# Altium footprint library BMS Slave Device R1.5.PcbLib: 6 footprints
Each footprint in its own frame and in the unit in brackets; x right, y up, seen from the top. Pads: shape width x height; smd on the part's side, far side on the other; paste and mask are expansions set on the pad; w line width, h text height; cw(c..) or ccw(c..) is an arc to the next point about the centre after c.
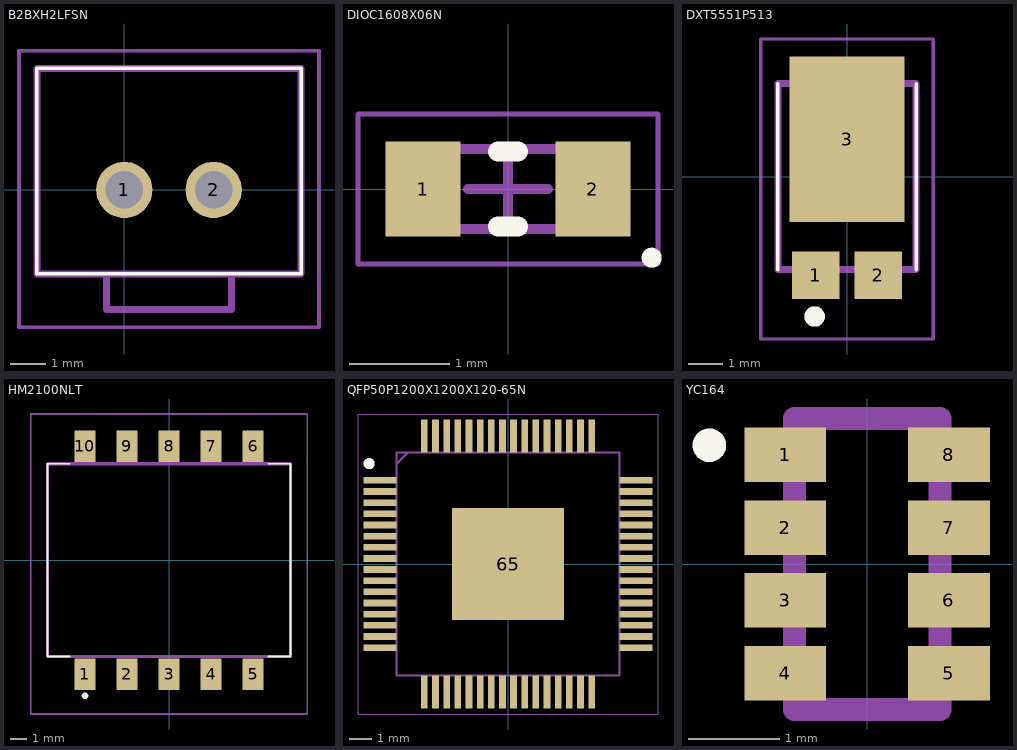
[diagram p0: the footprints below, top view; thin cyan lines are the x and y axes]

## B2BXH2LFSN [mm]
pads (2):
  round 1.575 hole 1.05: 1(0,0) 2(2.5,0)
Top Overlay:
  lines w0.1: -2.45,-2.35 4.95,-2.35 4.95,3.4 -2.45,3.4 -2.45,-2.35
Mechanical 13:
  lines w0.2: -2.45,-2.35 4.95,-2.35 4.95,3.4 -2.45,3.4 -2.45,-2.35 ; -0.5,-3.35 3,-3.35 3,-2.35 -0.5,-2.35 -0.5,-3.35
Mechanical 15:
  lines w0.1: -2.95,-3.85 5.45,-3.85 5.45,3.9 -2.95,3.9 -2.95,-3.85

## DIOC1608X06N [mm] "Chip Diode, 2-Leads, Body 1.60x0.80mm, IPC Medium Density"
height 0.6
pads (2):
  rect 0.75x0.95 smd: 1(-0.85,0) 2(0.85,0)
Top Overlay:
  circle w0.1: c1.437,-0.687 r0.05
  lines w0.2: -0.1,-0.375 0.1,-0.375 ; -0.1,0.375 0.1,0.375
Mechanical 13:
  lines w0.1: -0.8,-0.4 0.8,-0.4 0.8,0.4 -0.8,0.4 -0.8,-0.4
Mechanical 15:
  lines w0.05: -1.5,-0.75 1.5,-0.75 1.5,0.75 -1.5,0.75 -1.5,-0.75
  lines w0.1: -0.4,0 0.4,0 ; 0,-0.4 0,0.4
3D body: height 0.6, standoff 0, extent 0.6,-0.4 0.8,0.4
3D body: height 0.6, standoff 0, extent -0.8,-0.4 -0.6,0.4
3D body: height 0.6, standoff 0, extent -0.6,-0.4 0.6,0.4

## DXT5551P513 [mm]
pads (3):
  rect 1.39x1.4 smd: 1(-0.92,-2.89) 2(0.92,-2.89)
  rect 3.36x4.86 smd: 3(0,1.092)
Top Overlay:
  lines w0.1: -2.025,-2.725 -2.025,2.725 ; 2.025,-2.725 2.025,2.725
  lines w0.3: -1.1,-4.1 ccw(c-0.95,-4.1) -0.8,-4.1 ccw(c-0.95,-4.1) -1.1,-4.1
Mechanical 13:
  lines w0.2: -2.025,-2.725 -2.025,2.725 2.025,2.725 2.025,-2.725 -2.025,-2.725
Mechanical 15:
  lines w0.1: -2.525,-4.76 -2.525,4.032 2.525,4.032 2.525,-4.76 -2.525,-4.76

## HM2100NLT [mm]
pads (10):
  rect 1.27x1.89 smd: 1(-5.08,-6.895) 2(-2.54,-6.895) 3(0,-6.895) 4(2.54,-6.895) 5(5.08,-6.895) 6(5.08,6.895) 7(2.54,6.895) 8(0,6.895) 9(-2.54,6.895) 10(-5.08,6.895)
Top Overlay:
  lines w0.1: -6,-5.825 -7.35,-5.825 -7.35,5.825 -6,5.825 ; 6,-5.825 7.35,-5.825 7.35,5.825 6,5.825
  lines w0.2: -5.18,-8.2 cw(c-5.08,-8.2) -4.98,-8.2 cw(c-5.08,-8.2) -5.18,-8.2
Mechanical 13:
  lines w0.2: -7.35,-5.825 7.35,-5.825 7.35,5.825 -7.35,5.825 -7.35,-5.825
Mechanical 15:
  lines w0.1: -8.35,-9.3 8.35,-9.3 8.35,8.84 -8.35,8.84 -8.35,-9.3

## QFP50P1200X1200X120-65N [mm]
pads (65):
  rect 1.475x0.3 smd: 1(-5.738,3.75) 2(-5.738,3.25) 3(-5.738,2.75) 4(-5.738,2.25) 5(-5.738,1.75) 6(-5.738,1.25) 7(-5.738,0.75) 8(-5.738,0.25) 9(-5.738,-0.25) 10(-5.738,-0.75) 11(-5.738,-1.25) 12(-5.738,-1.75) 13(-5.738,-2.25) 14(-5.738,-2.75) 15(-5.738,-3.25) 16(-5.738,-3.75) 33(5.738,-3.75) 34(5.738,-3.25) 35(5.738,-2.75) 36(5.738,-2.25) 37(5.738,-1.75) 38(5.738,-1.25) 39(5.738,-0.75) 40(5.738,-0.25) 41(5.738,0.25) 42(5.738,0.75) 43(5.738,1.25) 44(5.738,1.75) 45(5.738,2.25) 46(5.738,2.75) 47(5.738,3.25) 48(5.738,3.75)
  rect 0.3x1.475 smd: 17(-3.75,-5.738) 18(-3.25,-5.738) 19(-2.75,-5.738) 20(-2.25,-5.738) 21(-1.75,-5.738) 22(-1.25,-5.738) 23(-0.75,-5.738) 24(-0.25,-5.738) 25(0.25,-5.738) 26(0.75,-5.738) 27(1.25,-5.738) 28(1.75,-5.738) 29(2.25,-5.738) 30(2.75,-5.738) 31(3.25,-5.738) 32(3.75,-5.738) 49(3.75,5.738) 50(3.25,5.738) 51(2.75,5.738) 52(2.25,5.738) 53(1.75,5.738) 54(1.25,5.738) 55(0.75,5.738) 56(0.25,5.738) 57(-0.25,5.738) 58(-0.75,5.738) 59(-1.25,5.738) 60(-1.75,5.738) 61(-2.25,5.738) 62(-2.75,5.738) 63(-3.25,5.738) 64(-3.75,5.738)
  rect 5x5 smd: 65(0,0)
Top Overlay:
  circle w0.25: c-6.225,4.5 r0.125
Mechanical 13:
  lines w0.1: -5,4.5 -4.5,5 ; -5,-5 5,-5 5,5 -5,5 -5,-5
Mechanical 15:
  lines w0.05: -6.725,-6.725 6.725,-6.725 6.725,6.725 -6.725,6.725 -6.725,-6.725
3D body "BQ76PL536ATPAPTQ1.stp": height 1.2, standoff 0, extent -6,-6 6,6

## YC164 [mm]
pads (8):
  rect 0.9x0.6 smd: 1(-0.9,1.2) 2(-0.9,0.4) 3(-0.9,-0.4) 4(-0.9,-1.2) 5(0.9,-1.2) 6(0.9,-0.4) 7(0.9,0.4) 8(0.9,1.2)
Top Overlay:
  circle w0.254: c-1.735,1.306 r0.057
Mechanical 13:
  lines w0.254: -0.8,-1.6 0.8,-1.6 0.8,1.6 -0.8,1.6 -0.8,-1.6